# Altium footprint library Current Sensor.PcbLib: 2 footprints
Each footprint in its own frame and in the unit in brackets; x right, y up, seen from the top. Pads: shape width x height; smd on the part's side, far side on the other; paste and mask are expansions set on the pad; w line width, h text height; cw(c..) or ccw(c..) is an arc to the next point about the centre after c.
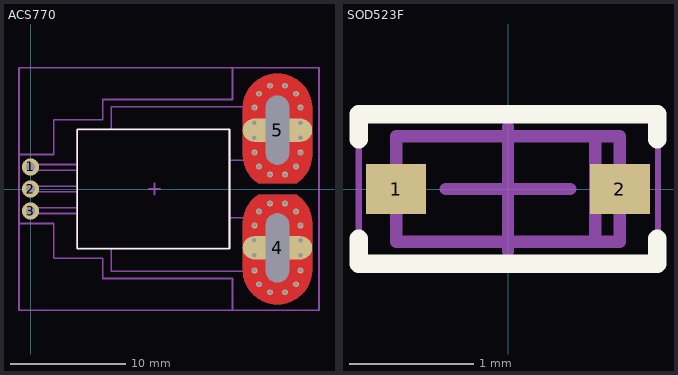
[diagram p0: the footprints below, top view; thin cyan lines are the x and y axes]

## ACS770 [mm]
pads (5):
  round 1.5 hole 0.8 mask+0: 1(0,1.91) 2(0,0) 3(0,-1.91)
  oval 6.025x2.025 hole 2 slot 6 at 90 deg: 4(21.4,-5.1) 5(21.4,5.1)
via 19.8,1.95 diameter 0.508 hole 0.4
via 20.75,1.25 diameter 0.508 hole 0.4
via 23,1.95 diameter 0.508 hole 0.4
via 22.05,1.25 diameter 0.508 hole 0.4
via 19.4,7.05 diameter 0.508 hole 0.4
via 19.4,3.15 diameter 0.508 hole 0.4
via 19.4,5.75 diameter 0.508 hole 0.4
via 19.4,4.45 diameter 0.508 hole 0.4
via 19.8,8.25 diameter 0.508 hole 0.4
via 20.75,8.95 diameter 0.508 hole 0.4
via 23,8.25 diameter 0.508 hole 0.4
via 22.05,8.95 diameter 0.508 hole 0.4
via 23.4,3.15 diameter 0.508 hole 0.4
via 23.4,7.05 diameter 0.508 hole 0.4
via 23.4,4.45 diameter 0.508 hole 0.4
via 23.4,5.75 diameter 0.508 hole 0.4
via 23,-1.95 diameter 0.508 hole 0.4
via 22.05,-1.25 diameter 0.508 hole 0.4
via 19.8,-1.95 diameter 0.508 hole 0.4
via 20.75,-1.25 diameter 0.508 hole 0.4
via 23.4,-7.05 diameter 0.508 hole 0.4
via 23.4,-3.15 diameter 0.508 hole 0.4
via 23.4,-5.75 diameter 0.508 hole 0.4
via 23.4,-4.45 diameter 0.508 hole 0.4
via 23,-8.25 diameter 0.508 hole 0.4
via 22.05,-8.95 diameter 0.508 hole 0.4
via 19.8,-8.25 diameter 0.508 hole 0.4
via 20.75,-8.95 diameter 0.508 hole 0.4
via 19.4,-3.15 diameter 0.508 hole 0.4
via 19.4,-7.05 diameter 0.508 hole 0.4
via 19.4,-4.45 diameter 0.508 hole 0.4
via 19.4,-5.75 diameter 0.508 hole 0.4
Top Layer:
  region: 24.4,-7 24.4,-7.118 24.382,-7.353 24.345,-7.586 24.29,-7.815 24.217,-8.039 24.127,-8.257 24.02,-8.467 23.896,-8.668 23.758,-8.859 23.605,-9.038 23.438,-9.205 23.259,-9.358 23.068,-9.496 22.867,-9.62 22.657,-9.727 22.439,-9.817 22.215,-9.89 21.986,-9.945 21.753,-9.982 21.518,-10 21.282,-10 21.047,-9.982 20.814,-9.945 20.585,-9.89 20.361,-9.817 20.143,-9.727 19.933,-9.62 19.732,-9.496 19.541,-9.358 19.362,-9.205 19.195,-9.038 19.042,-8.859 18.904,-8.668 18.78,-8.467 18.673,-8.257 18.583,-8.039 18.51,-7.815 18.455,-7.586 18.418,-7.353 18.4,-7.118 18.4,-7 18.4,-3 18.4,-2.877 18.42,-2.631 18.461,-2.387 18.521,-2.148 18.6,-1.915 18.699,-1.689 18.816,-1.471 18.95,-1.264 19.101,-1.069 19.267,-0.887 19.448,-0.719 19.641,-0.566 19.744,-0.498 19.744,-0.5 23.056,-0.5 23.056,-0.498 23.159,-0.566 23.352,-0.719 23.533,-0.887 23.699,-1.069 23.85,-1.264 23.984,-1.471 24.101,-1.689 24.2,-1.915 24.279,-2.148 24.339,-2.387 24.38,-2.631 24.4,-2.877 24.4,-3
  region: 18.4,7 18.4,7.118 18.418,7.353 18.455,7.586 18.51,7.815 18.583,8.039 18.673,8.257 18.78,8.467 18.904,8.668 19.042,8.859 19.195,9.038 19.362,9.205 19.541,9.358 19.732,9.496 19.933,9.62 20.143,9.727 20.361,9.817 20.585,9.89 20.814,9.945 21.047,9.982 21.282,10 21.518,10 21.753,9.982 21.986,9.945 22.215,9.89 22.439,9.817 22.657,9.727 22.867,9.62 23.068,9.496 23.259,9.358 23.438,9.205 23.605,9.038 23.758,8.859 23.896,8.668 24.02,8.467 24.127,8.257 24.217,8.039 24.29,7.815 24.345,7.586 24.382,7.353 24.4,7.118 24.4,7 24.4,3 24.4,2.877 24.38,2.631 24.339,2.387 24.279,2.148 24.2,1.915 24.101,1.689 23.984,1.471 23.85,1.264 23.699,1.069 23.533,0.887 23.352,0.719 23.159,0.566 23.056,0.498 23.056,0.5 19.744,0.5 19.744,0.498 19.641,0.566 19.448,0.719 19.267,0.887 19.101,1.069 18.95,1.264 18.816,1.471 18.699,1.689 18.6,1.915 18.521,2.148 18.461,2.387 18.42,2.631 18.4,2.877 18.4,3
Bottom Layer:
  region: 24.4,-7 24.4,-7.118 24.382,-7.353 24.345,-7.586 24.29,-7.815 24.217,-8.039 24.127,-8.257 24.02,-8.467 23.896,-8.668 23.758,-8.859 23.605,-9.038 23.438,-9.205 23.259,-9.358 23.068,-9.496 22.867,-9.62 22.657,-9.727 22.439,-9.817 22.215,-9.89 21.986,-9.945 21.753,-9.982 21.518,-10 21.282,-10 21.047,-9.982 20.814,-9.945 20.585,-9.89 20.361,-9.817 20.143,-9.727 19.933,-9.62 19.732,-9.496 19.541,-9.358 19.362,-9.205 19.195,-9.038 19.042,-8.859 18.904,-8.668 18.78,-8.467 18.673,-8.257 18.583,-8.039 18.51,-7.815 18.455,-7.586 18.418,-7.353 18.4,-7.118 18.4,-7 18.4,-3 18.4,-2.877 18.42,-2.631 18.461,-2.387 18.521,-2.148 18.6,-1.915 18.699,-1.689 18.816,-1.471 18.95,-1.264 19.101,-1.069 19.267,-0.887 19.448,-0.719 19.641,-0.566 19.744,-0.498 19.744,-0.5 23.056,-0.5 23.056,-0.498 23.159,-0.566 23.352,-0.719 23.533,-0.887 23.699,-1.069 23.85,-1.264 23.984,-1.471 24.101,-1.689 24.2,-1.915 24.279,-2.148 24.339,-2.387 24.38,-2.631 24.4,-2.877 24.4,-3
  region: 18.4,7 18.4,7.118 18.418,7.353 18.455,7.586 18.51,7.815 18.583,8.039 18.673,8.257 18.78,8.467 18.904,8.668 19.042,8.859 19.195,9.038 19.362,9.205 19.541,9.358 19.732,9.496 19.933,9.62 20.143,9.727 20.361,9.817 20.585,9.89 20.814,9.945 21.047,9.982 21.282,10 21.518,10 21.753,9.982 21.986,9.945 22.215,9.89 22.439,9.817 22.657,9.727 22.867,9.62 23.068,9.496 23.259,9.358 23.438,9.205 23.605,9.038 23.758,8.859 23.896,8.668 24.02,8.467 24.127,8.257 24.217,8.039 24.29,7.815 24.345,7.586 24.382,7.353 24.4,7.118 24.4,7 24.4,3 24.4,2.877 24.38,2.631 24.339,2.387 24.279,2.148 24.2,1.915 24.101,1.689 23.984,1.471 23.85,1.264 23.699,1.069 23.533,0.887 23.352,0.719 23.159,0.566 23.056,0.498 23.056,0.5 19.744,0.5 19.744,0.498 19.641,0.566 19.448,0.719 19.267,0.887 19.101,1.069 18.95,1.264 18.816,1.471 18.699,1.689 18.6,1.915 18.521,2.148 18.461,2.387 18.42,2.631 18.4,2.877 18.4,3
Top Overlay:
  lines w0.152: 4.05,-5.182 17.25,-5.182 17.25,5.182 4.05,5.182 4.05,-5.182
Top Courtyard:
  lines w0.15: -1,-3 -1,3 2,3 2,6 6.25,6 6.25,7.75 17.5,7.75 17.5,10.5 25,10.5 25,-10.5 17.5,-10.5 17.5,-7.75 6.25,-7.75 6.25,-6 2,-6 2,-3 -1,-3
Top Component Outline:
  lines w0.15: -1,-10.5 25,-10.5 25,10.5 -1,10.5 -1,-5.5 -1,-10.5
Top Component Center:
  lines w0.15: 10.25,0 11.25,0 ; 10.75,-0.5 10.75,0.5
Top Assembly (Mech25):
  lines w0.15: 7,-5.125 7,-7.125 22.5,-7.125 22.5,-2.5 17.25,-2.5 ; 7,5.125 7,7.125 22.5,7.125 22.5,2.5 17.25,2.5 ; 0,-2.125 4,-2.125 4,-1.625 0,-1.625 0,-2.125 ; 0,-0.25 4,-0.25 4,0.25 0,0.25 0,-0.25 ; 0,1.625 4,1.625 4,2.125 0,2.125 0,1.625 ; 4,-5.125 4,5.125 17.25,5.125 17.25,-5.125 4,-5.125
Top Designator:
  text ".Designator" at 8.681,-0.319 h1.52
3D body "Allegro-CA-CB-PFF-Package.STEP": height 7.07, standoff -3.47, extent -0.514,-6.998 22.303,7.002

## SOD523F [mm] "SODFL, 2-Leads, Body 0.80x1.60mm, IPC Medium Density"
height 0.77
pads (2):
  rect 0.48x0.4 smd: 1(-0.9,0) 2(0.9,0)
Top Overlay:
  lines w0.15: -1.2,-0.4 -1.2,-0.6 1.2,-0.6 1.2,-0.4 ; -1.2,0.4 -1.2,0.6 1.2,0.6 1.2,0.4
Top Courtyard:
  lines w0.1: -0.9,-0.425 -0.9,0.425 0.9,0.425 0.9,-0.425 -0.9,-0.425
Mechanical 15:
  lines w0.05: -1.206,-0.6 1.2,-0.6 ; -1.206,0.6 1.2,0.6 ; -1.2,-0.6 -1.2,0.6 ; 1.206,-0.6 1.206,0.6
Top Component Outline:
  lines w0.1: -0.9,-0.425 -0.9,0.425 0.9,0.425 0.9,-0.425 -0.9,-0.425
Top Component Center:
  lines w0.1: -0.5,0 0.5,0 ; 0,-0.5 0,0.5
Top Assembly (Mech25):
  lines w0.1: 0.7,-0.425 0.7,0.425 ; -0.9,-0.425 -0.9,0.425 0.9,0.425 0.9,-0.425 -0.9,-0.425
3D body "SOD523F.STEP": height 0.65, standoff 0, extent -0.8,-0.4 0.8,0.4